# Altium footprint library common-components.PcbLib: 43 footprints (part 2 of 3)
Each footprint in its own frame and in the unit in brackets; x right, y up, seen from the top. Pads: shape width x height; smd on the part's side, far side on the other; paste and mask are expansions set on the pad; w line width, h text height; cw(c..) or ccw(c..) is an arc to the next point about the centre after c.
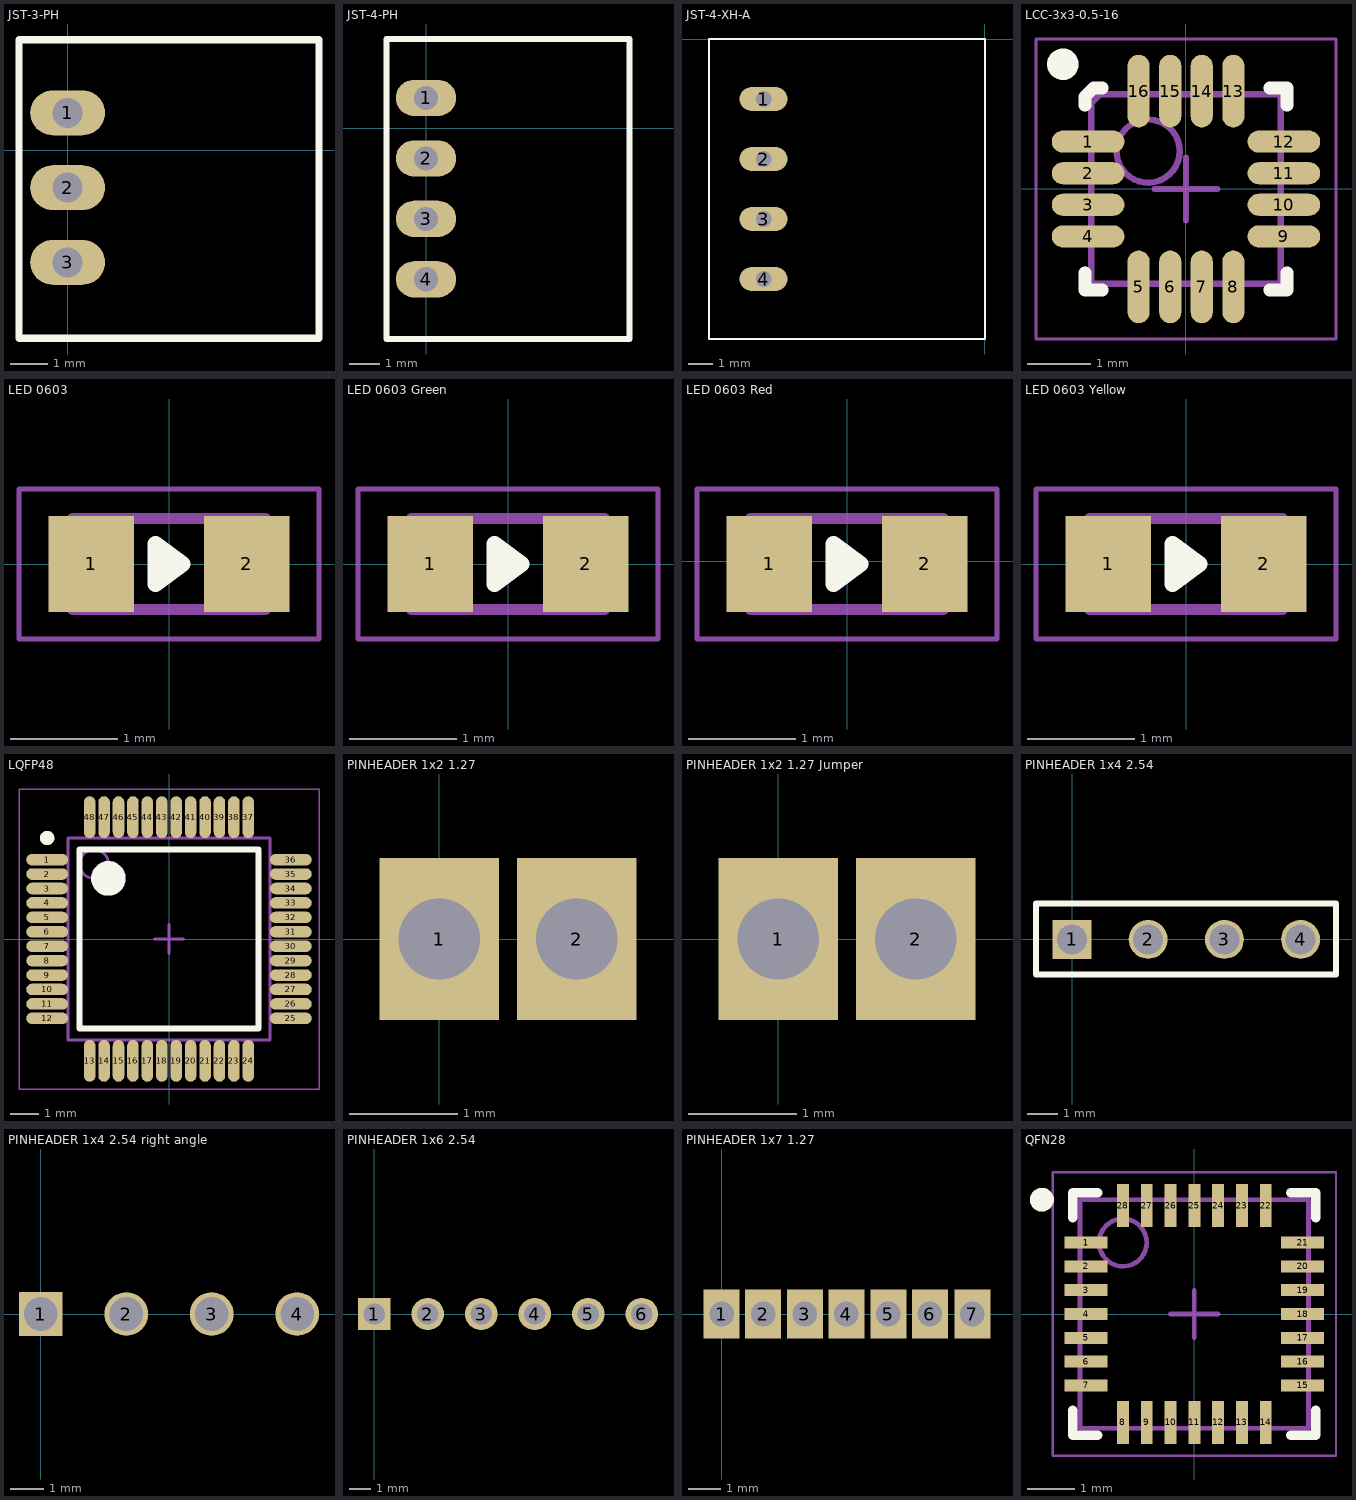
[diagram p1: the footprints below, top view; thin cyan lines are the x and y axes]

## JST-3-PH [mm] "JST-PH single row three contact connector"
height 5.7
pads (3):
  oval 2x1.2 hole 0.8: 1(0,1) 2(0,-1) 3(0,-3)
Top Overlay:
  lines w0.2: -1.3,-5.025 -1.3,2.95 6.725,2.95 6.725,-5.025 -1.3,-5.025
3D body: height 4.8, standoff -2, extent -0.8,-4.975 6.8,2.925

## JST-4-PH [mm] "JST-PH single row four contact connector"
height 5.7
pads (4):
  oval 2x1.2 hole 0.8: 1(0,1) 2(0,-1) 3(0,-3) 4(0,-5)
Top Overlay:
  lines w0.2: -1.3,-6.975 6.725,-6.975 6.725,2.95 -1.3,2.95 -1.3,-6.975
3D body: height 4.8, standoff -2, extent -0.875,-6.925 6.725,2.975

## JST-4-XH-A [mm]
height 6.1
pads (4):
  oval 2x1 hole 0.65: 1(-9.225,-2.5) 2(-9.225,-5) 3(-9.225,-7.5) 4(-9.225,-10)
Top Overlay:
  lines w0.1: -11.5,-12.5 0,-12.5 0,0 -11.5,0 -11.5,-12.5
Mechanical 15:
  text ".Designator" at -10.525,-1.5 h1
3D body: height 6.1, standoff -2, extent -11.45,-12.475 0.05,-0.075

## LCC-3x3-0.5-16 [mm] "LCC, 16-Pins, Body 3,00x3,00mmx0,90mm, Pitch 0,50mm, IPC Medium Density"
height 0.9
pads (16):
  oval 1.15x0.35 smd: 1(-1.55,0.75) 2(-1.55,0.25) 3(-1.55,-0.25) 4(-1.55,-0.75) 9(1.55,-0.75) 10(1.55,-0.25) 11(1.55,0.25) 12(1.55,0.75)
  oval 0.35x1.15 smd: 5(-0.75,-1.55) 6(-0.25,-1.55) 7(0.25,-1.55) 8(0.75,-1.55) 13(0.75,1.55) 14(0.25,1.55) 15(-0.25,1.55) 16(-0.75,1.55)
Top Overlay:
  circle w0.25: c-1.95,1.975 r0.125
  lines w0.2: -1.6,-1.325 -1.6,-1.6 -1.325,-1.6 ; -1.6,1.325 -1.6,1.462 -1.462,1.6 -1.325,1.6 ; 1.325,-1.6 1.6,-1.6 1.6,-1.325 ; 1.325,1.6 1.6,1.6 1.6,1.325
Mechanical 13:
  circle w0.1: c-0.6,0.6 r0.5
  lines w0.1: -1.5,-1.5 1.5,-1.5 1.5,1.5 -1.362,1.5 -1.5,1.362 -1.5,-1.5
Mechanical 15:
  lines w0.05: -2.375,-2.375 2.375,-2.375 2.375,2.375 -2.375,2.375 -2.375,-2.375
  lines w0.1: -0.5,0 0.5,0 ; 0,-0.5 0,0.5
3D body: height 0.9, standoff 0, extent -1.5,-1.5 1.5,1.5

## LED 0603 [mm] "0603 (1608) LED"
height 1
pads (2):
  rect 0.8x0.9 smd: 1(-0.725,0) 2(0.725,0)
Top Overlay:
  lines w0.15: -0.125,0 0.125,0 ; 0.125,0 -0.125,0.188 -0.125,-0.188 0.125,0
Mechanical 13:
  lines w0.1: -0.9,-0.425 0.9,-0.425 0.9,0.425 -0.9,0.425 -0.9,-0.425
Mechanical 15:
  lines w0.05: -1.4,-0.7 1.4,-0.7 1.4,0.7 -1.4,0.7 -1.4,-0.7
  text ".Designator" at -1.016,0 h0.2
3D body: height 0.66, standoff -0.02, extent -0.825,-0.363 0.825,0.362

## LED 0603 Green [mm]
height 1
pads (2):
  rect 0.8x0.9 smd: 1(-0.725,0) 2(0.725,0)
Top Overlay:
  lines w0.15: -0.125,0 0.125,0 ; 0.125,0 -0.125,0.188 -0.125,-0.188 0.125,0
Mechanical 13:
  lines w0.1: -0.9,-0.425 0.9,-0.425 0.9,0.425 -0.9,0.425 -0.9,-0.425
Mechanical 15:
  lines w0.05: -1.4,-0.7 1.4,-0.7 1.4,0.7 -1.4,0.7 -1.4,-0.7
  text ".Designator" at -1.016,0 h0.2
3D body: height 1.1, standoff 0, extent -0.86,-0.4 0.76,0.4

## LED 0603 Red [mm]
height 1
pads (2):
  rect 0.8x0.9 smd: 1(-0.725,-0.025) 2(0.725,-0.025)
Top Overlay:
  lines w0.15: -0.125,-0.025 0.125,-0.025 ; 0.125,-0.025 -0.125,-0.213 -0.125,0.162 0.125,-0.025
Mechanical 13:
  lines w0.1: -0.9,-0.45 -0.9,0.4 0.9,0.4 0.9,-0.45 -0.9,-0.45
Mechanical 15:
  lines w0.05: -1.4,-0.725 -1.4,0.675 1.4,0.675 1.4,-0.725 -1.4,-0.725
  text ".Designator" at -1,-0.075 h0.2
3D body: height 1.1, standoff 0, extent -0.86,-0.425 0.76,0.375

## LED 0603 Yellow [mm]
height 1
pads (2):
  rect 0.8x0.9 smd: 1(-0.725,0) 2(0.725,0)
Top Overlay:
  lines w0.15: -0.125,0 0.125,0 ; 0.125,0 -0.125,-0.188 -0.125,0.188 0.125,0
Mechanical 13:
  lines w0.1: -0.9,-0.425 -0.9,0.425 0.9,0.425 0.9,-0.425 -0.9,-0.425
Mechanical 15:
  lines w0.05: -1.4,-0.7 -1.4,0.7 1.4,0.7 1.4,-0.7 -1.4,-0.7
  text ".Designator" at -1.016,0 h0.2
3D body: height 1.1, standoff 0, extent -0.86,-0.4 0.76,0.4

## LQFP48 [mm] "Plastic quad flat pack 48 pins 7x7mm"
height 1.6
pads (48):
  oval 1.45x0.4 smd: 1(-4.225,2.75) 2(-4.225,2.25) 3(-4.225,1.75) 4(-4.225,1.25) 5(-4.225,0.75) 6(-4.225,0.25) 7(-4.225,-0.25) 8(-4.225,-0.75) 9(-4.225,-1.25) 10(-4.225,-1.75) 11(-4.225,-2.25) 12(-4.225,-2.75) 25(4.225,-2.75) 26(4.225,-2.25) 27(4.225,-1.75) 28(4.225,-1.25) 29(4.225,-0.75) 30(4.225,-0.25) 31(4.225,0.25) 32(4.225,0.75) 33(4.225,1.25) 34(4.225,1.75) 35(4.225,2.25) 36(4.225,2.75)
  oval 0.4x1.45 smd: 13(-2.75,-4.225) 14(-2.25,-4.225) 15(-1.75,-4.225) 16(-1.25,-4.225) 17(-0.75,-4.225) 18(-0.25,-4.225) 19(0.25,-4.225) 20(0.75,-4.225) 21(1.25,-4.225) 22(1.75,-4.225) 23(2.25,-4.225) 24(2.75,-4.225) 37(2.75,4.225) 38(2.25,4.225) 39(1.75,4.225) 40(1.25,4.225) 41(0.75,4.225) 42(0.25,4.225) 43(-0.25,4.225) 44(-0.75,4.225) 45(-1.25,4.225) 46(-1.75,4.225) 47(-2.25,4.225) 48(-2.75,4.225)
Top Overlay:
  circle w0.6: c-2.1,2.1 r0.3
  circle w0.25: c-4.225,3.5 r0.125
  lines w0.2: -3.1,-3.1 3.1,-3.1 3.1,3.1 -3.1,3.1 -3.1,-3.1
Mechanical 13:
  circle w0.1: c-2.6,2.6 r0.5
  lines w0.1: -3.5,-3.5 3.5,-3.5 3.5,3.5 -3.5,3.5 -3.5,-3.5
Mechanical 15:
  lines w0.05: -5.2,-5.2 5.2,-5.2 5.2,5.2 -5.2,5.2 -5.2,-5.2
  lines w0.1: -0.5,0 0.5,0 ; 0,-0.5 0,0.5
  text ".Designator" at -1.325,1.275 h0.7
3D body: height 1.55, standoff -0.02, extent -4.386,-4.386 4.386,4.386

## PINHEADER 1x2 1.27 [mm] "Small 1.27mm pitch single row two pin header"
height 5
pads (2):
  rect 1.1x1.5 hole 0.75: 1(0,0) 2(1.27,0)
3D body: height 4.4, standoff -2.9, extent -0.635,-1.15 1.905,1.15

## PINHEADER 1x2 1.27 Jumper [mm] "Small 1.27mm pitch single row two pin header"
height 5
pads (2):
  rect 1.1x1.5 hole 0.75: 1(0,0) 2(1.27,0)
3D body: height 4.7, standoff -2.9, extent -0.635,-1.15 1.905,1.15

## PINHEADER 1x4 2.54 [mm] "Single row four pin header"
height 10
pads (4):
  rect 1.3x1.3 hole 1: 1(0,0)
  round 1.3 hole 1: 2(2.54,0) 3(5.08,0) 4(7.62,0)
Top Overlay:
  lines w0.2: -1.2,-1.175 -1.2,1.2 8.8,1.2 8.8,-1.175 -1.2,-1.175
3D body: height 7.84, standoff -1.25, extent -1.27,-1.27 8.89,1.27

## PINHEADER 1x4 2.54 right angle [mm] "Single row four pin header"
height 10
pads (4):
  rect 1.3x1.3 hole 1: 1(0,0)
  round 1.3 hole 1: 2(2.54,0) 3(5.08,0) 4(7.62,0)
3D body: height 4.14, standoff -7.56, extent -1.27,-7.65 8.89,1.27

## PINHEADER 1x6 2.54 [mm] "Single row 6 pin header"
height 3.85
pads (6):
  rect 1.54x1.54 hole 1: 1(0,0)
  round 1.54 hole 1: 2(2.54,0) 3(5.08,0) 4(7.62,0) 5(10.16,0) 6(12.7,0)

## PINHEADER 1x7 1.27 [mm] "Small 1.27mm pitch single row seven pin header"
height 5
pads (7):
  rect 1.1x1.5 hole 0.75: 1(0,0) 2(1.27,0) 3(2.55,0) 4(3.82,0) 5(5.1,0) 6(6.37,0) 7(7.675,0)
3D body: height 5.1, standoff -2.84, extent -0.625,-1.225 8.265,1.275

## QFN28 [mm] "5x5mm 28 pin quad flat no-leads package"
height 1
pads (28):
  rect 0.9x0.25 smd: 1(-2.275,1.5) 2(-2.275,1) 3(-2.275,0.5) 4(-2.275,0) 5(-2.275,-0.5) 6(-2.275,-1) 7(-2.275,-1.5) 15(2.275,-1.5) 16(2.275,-1) 17(2.275,-0.5) 18(2.275,0) 19(2.275,0.5) 20(2.275,1) 21(2.275,1.5)
  rect 0.25x0.9 smd: 8(-1.5,-2.275) 9(-1,-2.275) 10(-0.5,-2.275) 11(0,-2.275) 12(0.5,-2.275) 13(1,-2.275) 14(1.5,-2.275) 22(1.5,2.275) 23(1,2.275) 24(0.5,2.275) 25(0,2.275) 26(-0.5,2.275) 27(-1,2.275) 28(-1.5,2.275)
Top Overlay:
  circle w0.25: c-3.2,2.4 r0.125
  lines w0.2: -2.55,-2.025 -2.55,-2.55 -2.025,-2.55 ; -2.55,2.025 -2.55,2.55 -2.025,2.55 ; 2.025,-2.55 2.55,-2.55 2.55,-2.025 ; 2.025,2.55 2.55,2.55 2.55,2.025
Mechanical 13:
  circle w0.1: c-1.5,1.5 r0.5
  lines w0.1: -2.4,-2.4 -2.4,2.4 2.4,2.4 2.4,-2.4 -2.4,-2.4
Mechanical 15:
  lines w0.05: -2.975,-2.975 -2.975,2.975 2.975,2.975 2.975,-2.975 -2.975,-2.975
  lines w0.1: -0.5,0 0.5,0 ; 0,-0.5 0,0.5
  text ".Designator" at -1.5,0.825 h0.3
3D body: height 1, standoff 0, extent -2.5,-2.5 2.5,2.5